# EAGLE library part LTC4449 (library ic-LT)
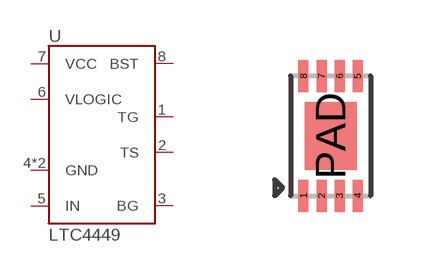
[diagram p8: symbol with the pads of DFN8; footprint DFN8]

Designator prefix U

## LTC4449  [DFN8]
1  TG
2  TS
3  BG
4  GND
5  IN
6  VLOGIC
7  VCC
8  BST
PAD  GND

## Footprint DFN8 (pad centres in mm)
smd 0.25 x 0.8: 1 -0.675,-1.5; 2 -0.225,-1.5; 3 0.225,-1.5; 4 0.675,-1.5; 5 0.675,1.5; 6 0.225,1.5; 7 -0.225,1.5; 8 -0.675,1.5
smd 1.3 x 1.7: PAD 0,0